# Altium footprint library TE_DTM1312PC12PDR008.PcbLib: 1 footprints
Each footprint in its own frame and in the unit in brackets; x right, y up, seen from the top. Pads: shape width x height; smd on the part's side, far side on the other; paste and mask are expansions set on the pad; w line width, h text height; cw(c..) or ccw(c..) is an arc to the next point about the centre after c.
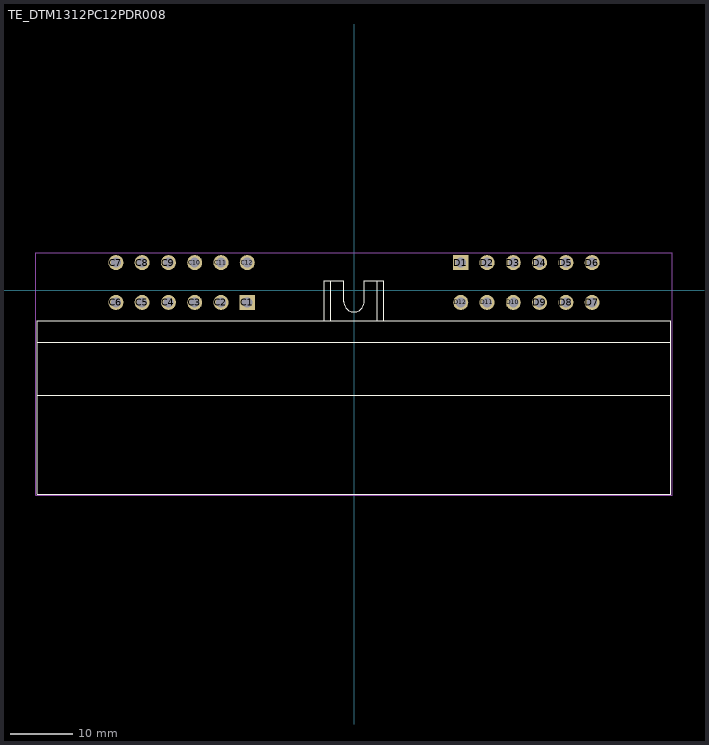
[diagram p0: the footprint, top view; thin cyan lines are the x and y axes]

## TE_DTM1312PC12PDR008 [mm]
pads (24):
  rect 2.4x2.4 hole 1.6: C1(-17.025,-1.96) D1(17.025,4.39)
  round 2.4 hole 1.6: C2(-21.215,-1.96) C3(-25.405,-1.96) C4(-29.595,-1.96) C5(-33.785,-1.96) C6(-37.975,-1.96) C7(-37.975,4.39) C8(-33.785,4.39) C9(-29.595,4.39) C10(-25.405,4.39) C11(-21.215,4.39) C12(-17.025,4.39) D2(21.215,4.39) D3(25.405,4.39) D4(29.595,4.39) D5(33.785,4.39) D6(37.975,4.39) D7(37.975,-1.96) D8(33.785,-1.96) D9(29.595,-1.96) D10(25.405,-1.96) D11(21.215,-1.96) D12(17.025,-1.96)
Top Overlay:
  lines w0.127: -50.5,-16.77 50.5,-16.77 ; -50.5,-16.77 -50.5,-8.31 ; -50.5,-16.77 -50.5,-32.52 50.5,-32.52 50.5,-16.77 ; -50.5,-8.31 -50.5,-4.91 -4.75,-4.91 ; -50.5,-8.31 50.5,-8.31 ; -4.75,-4.91 -3.68,-4.91 ; -4.75,-4.91 -4.75,1.52 -3.68,1.52 ; -3.68,-4.91 3.68,-4.91 ; -3.68,-4.91 -3.68,1.52 ; -3.68,1.52 -1.625,1.52 -1.625,-1.855 ccw(c0,-1.855) 0,-3.48 ccw(c0,-1.855) 1.625,-1.855 1.625,1.52 3.68,1.52 ; 3.68,-4.91 4.75,-4.91 ; 3.68,-4.91 3.68,1.52 ; 3.68,1.52 4.75,1.52 4.75,-4.91 ; 4.75,-4.91 50.5,-4.91 50.5,-8.31 ; 50.5,-16.77 50.5,-8.31
Mechanical 15:
  lines w0.05: -50.75,-32.75 50.75,-32.75 50.75,6 -50.75,6 -50.75,-32.75